# Altium footprint library Comm.PcbLib: 11 footprints
Each footprint in its own frame and in the unit in brackets; x right, y up, seen from the top. Pads: shape width x height; smd on the part's side, far side on the other; paste and mask are expansions set on the pad; w line width, h text height; cw(c..) or ccw(c..) is an arc to the next point about the centre after c.
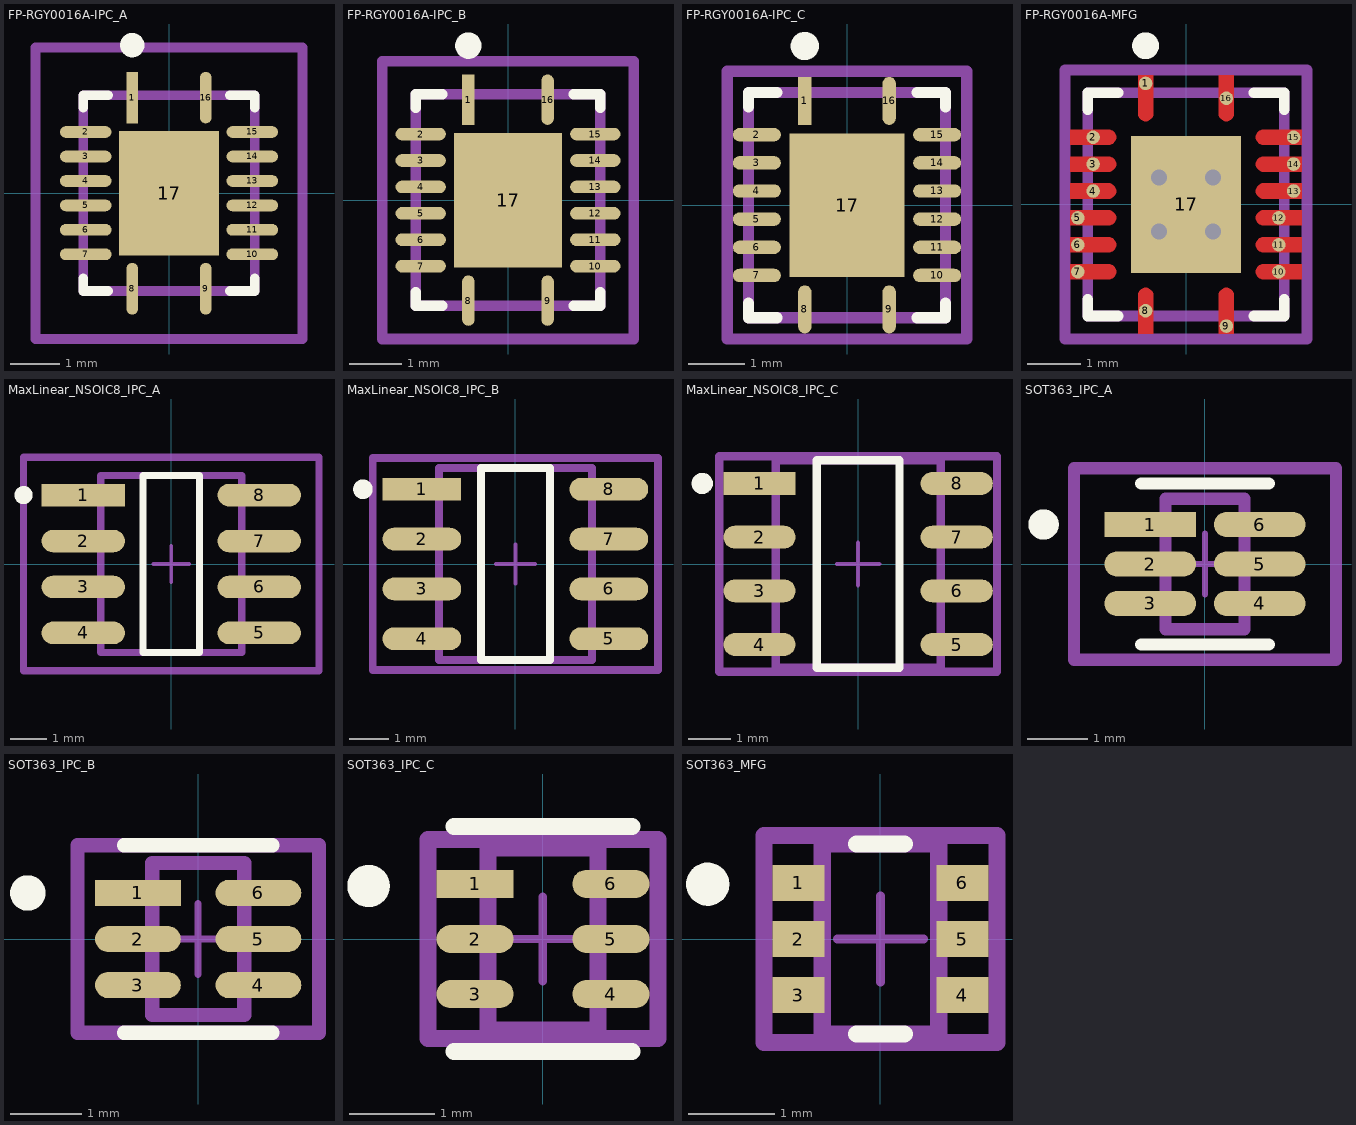
[diagram p0: the footprints below, top view; thin cyan lines are the x and y axes]

## FP-RGY0016A-IPC_A [mm]
pads (17):
  rect 0.239x1.054 smd paste+0 mask+0: 1(-0.75,1.952)
  rrect100% 1.054x0.239 smd paste+0 mask+0: 2(-1.702,1.25) 3(-1.702,0.75) 4(-1.702,0.25) 5(-1.702,-0.25) 6(-1.702,-0.75) 7(-1.702,-1.25) 10(1.702,-1.25) 11(1.702,-0.75) 12(1.702,-0.25) 13(1.702,0.25) 14(1.702,0.75) 15(1.702,1.25)
  rrect100% 0.239x1.054 smd paste+0 mask+0: 8(-0.75,-1.952) 9(0.75,-1.952) 16(0.75,1.952)
  rect 2.05x2.55 smd paste-1000 mask+0: 17(0,0)
Top Overlay:
  circle w0.25: c-0.75,3.025 r0.125
  lines w0.2: -1.75,-1.745 -1.75,-2 -1.245,-2 ; -1.75,1.745 -1.75,2 -1.245,2 ; 1.245,-2 1.75,-2 1.75,-1.745 ; 1.245,2 1.75,2 1.75,1.745
Top Paste:
  rectangle: -0.609,-0.859 0.609,0.859
Mechanical 5:
  lines w0.2: -2.729,-2.979 -2.729,2.979 2.729,2.979 2.729,-2.979 -2.729,-2.979
  text ".Designator" at 0,0.188 h1
Mechanical 13:
  lines w0.2: -1.75,-2 -1.75,2 1.75,2 1.75,-2 -1.75,-2
Mechanical 15:
  lines w0.2: -2.729,-2.979 -2.729,2.979 2.729,2.979 2.729,-2.979 -2.729,-2.979
Mechanical 16:
  lines w0.1: -0.5,0 0.5,0 ; 0,-0.5 0,0.5
3D body "IC_Texas_Instruments_SN74AVC4T774RGYR_eec.STEP": height 0.25, standoff 0, extent -2.729,-2.979 2.729,2.979

## FP-RGY0016A-IPC_B [mm]
pads (17):
  rect 0.239x0.954 smd paste+0 mask+0: 1(-0.75,1.902)
  rrect100% 0.954x0.239 smd paste+0 mask+0: 2(-1.652,1.25) 3(-1.652,0.75) 4(-1.652,0.25) 5(-1.652,-0.25) 6(-1.652,-0.75) 7(-1.652,-1.25) 10(1.652,-1.25) 11(1.652,-0.75) 12(1.652,-0.25) 13(1.652,0.25) 14(1.652,0.75) 15(1.652,1.25)
  rrect100% 0.239x0.954 smd paste+0 mask+0: 8(-0.75,-1.902) 9(0.75,-1.902) 16(0.75,1.902)
  rect 2.05x2.55 smd paste-1000 mask+0: 17(0,0)
Top Overlay:
  circle w0.25: c-0.75,2.925 r0.125
  lines w0.2: -1.75,-1.745 -1.75,-2 -1.245,-2 ; -1.75,1.745 -1.75,2 -1.245,2 ; 1.245,-2 1.75,-2 1.75,-1.745 ; 1.245,2 1.75,2 1.75,1.745
Top Paste:
  rectangle: -0.609,-0.859 0.609,0.859
Mechanical 5:
  lines w0.2: -2.379,-2.629 2.379,-2.629 2.379,2.629 -2.379,2.629 -2.379,-2.629
  text ".Designator" at 0,0.188 h1
Mechanical 13:
  lines w0.2: -1.75,-2 1.75,-2 1.75,2 -1.75,2 -1.75,-2
Mechanical 15:
  lines w0.2: -2.379,-2.629 2.379,-2.629 2.379,2.629 -2.379,2.629 -2.379,-2.629
Mechanical 16:
  lines w0.1: -0.5,0 0.5,0 ; 0,-0.5 0,0.5
3D body "IC_Texas_Instruments_SN74AVC4T774RGYR_eec.STEP": height 0.25, standoff 0, extent -2.379,-2.629 2.379,2.629

## FP-RGY0016A-IPC_C [mm]
pads (17):
  rect 0.239x0.854 smd paste+0 mask+0: 1(-0.75,1.852)
  rrect100% 0.854x0.239 smd paste+0 mask+0: 2(-1.602,1.25) 3(-1.602,0.75) 4(-1.602,0.25) 5(-1.602,-0.25) 6(-1.602,-0.75) 7(-1.602,-1.25) 10(1.602,-1.25) 11(1.602,-0.75) 12(1.602,-0.25) 13(1.602,0.25) 14(1.602,0.75) 15(1.602,1.25)
  rrect100% 0.239x0.854 smd paste+0 mask+0: 8(-0.75,-1.852) 9(0.75,-1.852) 16(0.75,1.852)
  rect 2.05x2.55 smd paste-1000 mask+0: 17(0,0)
Top Overlay:
  circle w0.25: c-0.75,2.825 r0.125
  lines w0.2: -1.75,-1.745 -1.75,-2 -1.245,-2 ; -1.75,1.745 -1.75,2 -1.245,2 ; 1.245,-2 1.75,-2 1.75,-1.745 ; 1.245,2 1.75,2 1.75,1.745
Top Paste:
  rectangle: -0.609,-0.859 0.609,0.859
Mechanical 5:
  lines w0.2: -2.129,-2.379 2.129,-2.379 2.129,2.379 -2.129,2.379 -2.129,-2.379
  text ".Designator" at 0,0.188 h1
Mechanical 13:
  lines w0.2: -1.75,-2 1.75,-2 1.75,2 -1.75,2 -1.75,-2
Mechanical 15:
  lines w0.2: -2.129,-2.379 2.129,-2.379 2.129,2.379 -2.129,2.379 -2.129,-2.379
Mechanical 16:
  lines w0.1: -0.5,0 0.5,0 ; 0,-0.5 0,0.5
3D body "IC_Texas_Instruments_SN74AVC4T774RGYR_eec.STEP": height 0.25, standoff 0, extent -2.129,-2.379 2.129,2.379

## FP-RGY0016A-MFG [mm]
pads (17):
  round 0.252 smd paste-1000 mask+0: 1(-0.75,2.25) 2(-1.725,1.25) 3(-1.725,0.75) 4(-1.725,0.25) 5(-2.01,-0.25) 6(-2.01,-0.75) 7(-2.01,-1.25) 8(-0.75,-1.975) 9(0.75,-2.26) 10(1.725,-1.25) 11(1.725,-0.75) 12(1.725,-0.25) 13(2,0.25) 14(2,0.75) 15(2,1.25) 16(0.75,1.975)
  rect 2.05x2.55 smd paste-1000 mask+0: 17(0,0)
via 0.5,0.5 diameter 0.6 hole 0.3
via 0.5,-0.5 diameter 0.6 hole 0.3
via -0.5,0.5 diameter 0.6 hole 0.3
via -0.5,-0.5 diameter 0.6 hole 0.3
Top Layer:
  region: -0.61,2.4 -0.61,1.69 -0.61,1.662 -0.631,1.611 -0.671,1.571 -0.722,1.55 -0.75,1.55 -0.778,1.55 -0.829,1.571 -0.869,1.611 -0.89,1.662 -0.89,1.69 -0.89,2.4
  region: -2.15,1.39 -1.44,1.39 -1.412,1.39 -1.361,1.369 -1.321,1.329 -1.3,1.278 -1.3,1.25 -1.3,1.222 -1.321,1.171 -1.361,1.131 -1.412,1.11 -1.44,1.11 -2.15,1.11
  region: -2.15,0.89 -1.44,0.89 -1.412,0.89 -1.361,0.869 -1.321,0.829 -1.3,0.778 -1.3,0.75 -1.3,0.722 -1.321,0.671 -1.361,0.631 -1.412,0.61 -1.44,0.61 -2.15,0.61
  region: -2.15,0.39 -1.44,0.39 -1.412,0.39 -1.361,0.369 -1.321,0.329 -1.3,0.278 -1.3,0.25 -1.3,0.222 -1.321,0.171 -1.361,0.131 -1.412,0.11 -1.44,0.11 -2.15,0.11
  region: -2.15,-0.11 -1.44,-0.11 -1.412,-0.11 -1.361,-0.131 -1.321,-0.171 -1.3,-0.222 -1.3,-0.25 -1.3,-0.278 -1.321,-0.329 -1.361,-0.369 -1.412,-0.39 -1.44,-0.39 -2.15,-0.39
  region: -2.15,-0.61 -1.44,-0.61 -1.412,-0.61 -1.361,-0.631 -1.321,-0.671 -1.3,-0.722 -1.3,-0.75 -1.3,-0.778 -1.321,-0.829 -1.361,-0.869 -1.412,-0.89 -1.44,-0.89 -2.15,-0.89
  region: -2.15,-1.11 -1.44,-1.11 -1.412,-1.11 -1.361,-1.131 -1.321,-1.171 -1.3,-1.222 -1.3,-1.25 -1.3,-1.278 -1.321,-1.329 -1.361,-1.369 -1.412,-1.39 -1.44,-1.39 -2.15,-1.39
  region: 2.15,-1.39 1.44,-1.39 1.412,-1.39 1.361,-1.369 1.321,-1.329 1.3,-1.278 1.3,-1.25 1.3,-1.222 1.321,-1.171 1.361,-1.131 1.412,-1.11 1.44,-1.11 2.15,-1.11
  region: 2.15,-0.89 1.44,-0.89 1.412,-0.89 1.361,-0.869 1.321,-0.829 1.3,-0.778 1.3,-0.75 1.3,-0.722 1.321,-0.671 1.361,-0.631 1.412,-0.61 1.44,-0.61 2.15,-0.61
  region: 2.15,-0.39 1.44,-0.39 1.412,-0.39 1.361,-0.369 1.321,-0.329 1.3,-0.278 1.3,-0.25 1.3,-0.222 1.321,-0.171 1.361,-0.131 1.412,-0.11 1.44,-0.11 2.15,-0.11
  region: 2.15,0.11 1.44,0.11 1.412,0.11 1.361,0.131 1.321,0.171 1.3,0.222 1.3,0.25 1.3,0.278 1.321,0.329 1.361,0.369 1.412,0.39 1.44,0.39 2.15,0.39
  region: 2.15,0.61 1.44,0.61 1.412,0.61 1.361,0.631 1.321,0.671 1.3,0.722 1.3,0.75 1.3,0.778 1.321,0.829 1.361,0.869 1.412,0.89 1.44,0.89 2.15,0.89
  region: 2.15,1.11 1.44,1.11 1.412,1.11 1.361,1.131 1.321,1.171 1.3,1.222 1.3,1.25 1.3,1.278 1.321,1.329 1.361,1.369 1.412,1.39 1.44,1.39 2.15,1.39
  region: -0.89,-2.4 -0.89,-1.69 -0.89,-1.662 -0.869,-1.611 -0.829,-1.571 -0.778,-1.55 -0.75,-1.55 -0.722,-1.55 -0.671,-1.571 -0.631,-1.611 -0.61,-1.662 -0.61,-1.69 -0.61,-2.4
  region: 0.61,-2.4 0.61,-1.69 0.61,-1.662 0.631,-1.611 0.671,-1.571 0.722,-1.55 0.75,-1.55 0.778,-1.55 0.829,-1.571 0.869,-1.611 0.89,-1.662 0.89,-1.69 0.89,-2.4
  region: 0.89,2.4 0.89,1.69 0.89,1.662 0.869,1.611 0.829,1.571 0.778,1.55 0.75,1.55 0.722,1.55 0.671,1.571 0.631,1.611 0.61,1.662 0.61,1.69 0.61,2.4
Top Overlay:
  circle w0.25: c-0.75,2.95 r0.125
  lines w0.2: -1.825,-1.765 -1.825,-2.075 -1.265,-2.075 ; -1.825,1.765 -1.825,2.075 -1.265,2.075 ; 1.265,-2.075 1.825,-2.075 1.825,-1.765 ; 1.265,2.075 1.825,2.075 1.825,1.765
Top Paste:
  drawing of 20 lines, arcs and shapes, not listed
Mechanical 5:
  lines w0.2: -2.25,-2.5 2.25,-2.5 2.25,2.5 -2.25,2.5 -2.25,-2.5
  text ".Designator" at 0,-0.001 h1
Mechanical 13:
  lines w0.2: -1.825,-2.075 1.825,-2.075 1.825,2.075 -1.825,2.075 -1.825,-2.075
Mechanical 15:
  lines w0.2: -2.25,-2.5 2.25,-2.5 2.25,2.5 -2.25,2.5 -2.25,-2.5
Mechanical 16:
  lines w0.1: -0.675,0 0.675,0 ; 0,-0.675 0,0.675
3D body "IC_Texas_Instruments_SN74AVC4T774RGYR_eec.STEP": height 0.25, standoff 0, extent -2.25,-2.5 2.25,2.5

## MaxLinear_NSOIC8_IPC_A [mm]
height 0.025
pads (8):
  rect 2.306x0.622 smd paste+0 mask+0: 1(-2.432,1.905)
  rrect100% 2.306x0.622 smd paste+0 mask+0: 2(-2.432,0.635) 3(-2.432,-0.635) 4(-2.432,-1.905) 5(2.432,-1.905) 6(2.432,-0.635) 7(2.432,0.635) 8(2.432,1.905)
Top Overlay:
  circle w0.25: c-4.085,1.905 r0.125
  lines w0.2: -0.779,-2.45 -0.779,2.45 0.779,2.45 0.779,-2.45 -0.779,-2.45
Mechanical 10:
  lines w0.2: -4.085,-2.95 -4.085,2.95 4.085,2.95 4.085,-2.95 -4.085,-2.95
  text ".Designator" at 0,0.188 h1
Mechanical 12:
  lines w0.2: -1.95,-2.45 -1.95,2.45 1.95,2.45 1.95,-2.45 -1.95,-2.45
Mechanical 15:
  lines w0.1: -0.5,0 0.5,0 ; 0,-0.5 0,0.5
  lines w0.2: -4.085,-2.95 -4.085,2.95 4.085,2.95 4.085,-2.95 -4.085,-2.95
3D body "IC_MaxLinear_SP3485EN-L-TR_eec.STEP": height 1.75, standoff 0, extent -3,-2.45 3,2.45

## MaxLinear_NSOIC8_IPC_B [mm]
height 0.025
pads (8):
  rect 2.006x0.582 smd paste+0 mask+0: 1(-2.382,1.905)
  rrect100% 2.006x0.582 smd paste+0 mask+0: 2(-2.382,0.635) 3(-2.382,-0.635) 4(-2.382,-1.905) 5(2.382,-1.905) 6(2.382,-0.635) 7(2.382,0.635) 8(2.382,1.905)
Top Overlay:
  circle w0.25: c-3.885,1.905 r0.125
  lines w0.2: -0.879,-2.45 0.879,-2.45 0.879,2.45 -0.879,2.45 -0.879,-2.45
Mechanical 10:
  lines w0.2: -3.635,-2.7 3.635,-2.7 3.635,2.7 -3.635,2.7 -3.635,-2.7
  text ".Designator" at 0,0.188 h1
Mechanical 12:
  lines w0.2: -1.95,-2.45 1.95,-2.45 1.95,2.45 -1.95,2.45 -1.95,-2.45
Mechanical 15:
  lines w0.1: -0.5,0 0.5,0 ; 0,-0.5 0,0.5
  lines w0.2: -3.635,-2.7 3.635,-2.7 3.635,2.7 -3.635,2.7 -3.635,-2.7
3D body "IC_MaxLinear_SP3485EN-L-TR_eec.STEP": height 0.25, standoff 0, extent -3.635,-2.7 3.635,2.7

## MaxLinear_NSOIC8_IPC_C [mm]
height 0.025
pads (8):
  rect 1.706x0.542 smd paste+0 mask+0: 1(-2.332,1.905)
  rrect100% 1.706x0.542 smd paste+0 mask+0: 2(-2.332,0.635) 3(-2.332,-0.635) 4(-2.332,-1.905) 5(2.332,-1.905) 6(2.332,-0.635) 7(2.332,0.635) 8(2.332,1.905)
Top Overlay:
  circle w0.25: c-3.685,1.905 r0.125
  lines w0.2: -0.979,-2.45 0.979,-2.45 0.979,2.45 -0.979,2.45 -0.979,-2.45
Mechanical 10:
  lines w0.2: -3.285,-2.55 3.285,-2.55 3.285,2.55 -3.285,2.55 -3.285,-2.55
  text ".Designator" at 0,0.188 h1
Mechanical 12:
  lines w0.2: -1.95,-2.45 1.95,-2.45 1.95,2.45 -1.95,2.45 -1.95,-2.45
Mechanical 15:
  lines w0.1: -0.5,0 0.5,0 ; 0,-0.5 0,0.5
  lines w0.2: -3.285,-2.55 3.285,-2.55 3.285,2.55 -3.285,2.55 -3.285,-2.55
3D body "IC_MaxLinear_SP3485EN-L-TR_eec.STEP": height 0.25, standoff 0, extent -3.285,-2.55 3.285,2.55

## SOT363_IPC_A [mm] "Diodes_Inc"
pads (6):
  rect 1.51x0.412 smd paste+0 mask+0: 1(-0.901,0.65)
  rrect100% 1.51x0.412 smd paste+0 mask+0: 2(-0.901,0) 3(-0.901,-0.65) 4(0.901,-0.65) 5(0.901,0) 6(0.901,0.65)
Top Overlay:
  circle w0.25: c-2.656,0.65 r0.125
  lines w0.2: -1.05,-1.325 1.05,-1.325 ; -1.05,1.325 1.05,1.325
Mechanical 10:
  lines w0.2: -2.156,-1.575 -2.156,1.575 2.156,1.575 2.156,-1.575 -2.156,-1.575
  text ".Designator" at 0,0.188 h1
Mechanical 12:
  lines w0.2: -0.65,-1.075 -0.65,1.075 0.65,1.075 0.65,-1.075 -0.65,-1.075
Mechanical 15:
  lines w0.1: -0.5,0 0.5,0 ; 0,-0.5 0,0.5
  lines w0.2: -2.156,-1.575 -2.156,1.575 2.156,1.575 2.156,-1.575 -2.156,-1.575
3D body "Trans_Diodes_Inc_BSS138DWQ-7_eec.STEP": height 0.25, standoff 0, extent -2.156,-1.575 2.156,1.575

## SOT363_IPC_B [mil] "Diodes_Inc"
pads (6):
  rect 47.65x14.65 smd paste+0 mask+0: 1(-33.5,25.59)
  rrect100% 47.65x14.65 smd paste+0 mask+0: 2(-33.5,0) 3(-33.5,-25.59) 4(33.5,-25.59) 5(33.5,0) 6(33.5,25.59)
Top Overlay:
  circle w9.84: c-94.73,25.59 r4.92
  lines w7.87: -41.34,-52.17 41.34,-52.17 ; -41.34,52.17 41.34,52.17
Mechanical 10:
  lines w7.87: -67.17,-52.17 -67.17,52.17 67.17,52.17 67.17,-52.17 -67.17,-52.17
  text ".Designator" at 0,7.39 h39.37
Mechanical 12:
  lines w7.87: -25.59,-42.32 -25.59,42.32 25.59,42.32 25.59,-42.32 -25.59,-42.32
Mechanical 15:
  lines w3.94: -19.68,0 19.69,0 ; 0,-19.68 0,19.68
  lines w7.87: -67.17,-52.17 -67.17,52.17 67.17,52.17 67.17,-52.17 -67.17,-52.17
3D body "Trans_Diodes_Inc_BSS138DWQ-7_eec.STEP": height 10, standoff 0, extent -67.17,-52.17 67.17,52.17

## SOT363_IPC_C [mm] "Diodes_Inc"
pads (6):
  rect 0.91x0.332 smd paste+0 mask+0: 1(-0.801,0.65)
  rrect100% 0.91x0.332 smd paste+0 mask+0: 2(-0.801,0) 3(-0.801,-0.65) 4(0.801,-0.65) 5(0.801,0) 6(0.801,0.65)
Top Overlay:
  circle w0.25: c-2.056,0.625 r0.125
  lines w0.2: -1.05,-1.325 1.05,-1.325 ; -1.05,1.325 1.05,1.325
Mechanical 10:
  lines w0.2: -1.356,-1.175 1.356,-1.175 1.356,1.175 -1.356,1.175 -1.356,-1.175
  text ".Designator" at 0,0.188 h1
Mechanical 12:
  lines w0.2: -0.65,-1.075 0.65,-1.075 0.65,1.075 -0.65,1.075 -0.65,-1.075
Mechanical 15:
  lines w0.1: -0.5,0 0.5,0 ; 0,-0.5 0,0.5
  lines w0.2: -1.356,-1.175 1.356,-1.175 1.356,1.175 -1.356,1.175 -1.356,-1.175
3D body "Trans_Diodes_Inc_BSS138DWQ-7_eec.STEP": height 0.25, standoff 0, extent -1.356,-1.175 1.356,1.175

## SOT363_MFG [mm] "Diodes_Inc"
pads (6):
  rect 0.6x0.42 smd paste+0 mask+0: 1(-0.95,0.65) 2(-0.95,0) 3(-0.95,-0.65) 4(0.95,-0.65) 5(0.95,0) 6(0.95,0.65)
Top Overlay:
  circle w0.25: c-2,0.635 r0.125
  lines w0.2: -0.275,-1.1 0.275,-1.1 ; -0.275,1.1 0.275,1.1
Mechanical 10:
  lines w0.2: -1.35,-1.2 1.35,-1.2 1.35,1.2 -1.35,1.2 -1.35,-1.2
  text ".Designator" at 0,0.188 h1
Mechanical 12:
  lines w0.2: -0.675,-1.1 0.675,-1.1 0.675,1.1 -0.675,1.1 -0.675,-1.1
Mechanical 15:
  lines w0.1: -0.5,0 0.5,0 ; 0,-0.5 0,0.5
  lines w0.2: -1.35,-1.2 1.35,-1.2 1.35,1.2 -1.35,1.2 -1.35,-1.2
3D body "Trans_Diodes_Inc_BSS138DWQ-7_eec.STEP": height 0.25, standoff 0, extent -1.35,-1.2 1.35,1.2